# EAGLE library part MBI5168 (library Elecrow_IC)
8-bit Constant Current LED Sink Driver http://www.digchip.com/data/283/283-00011-0-MBI5168.pdf
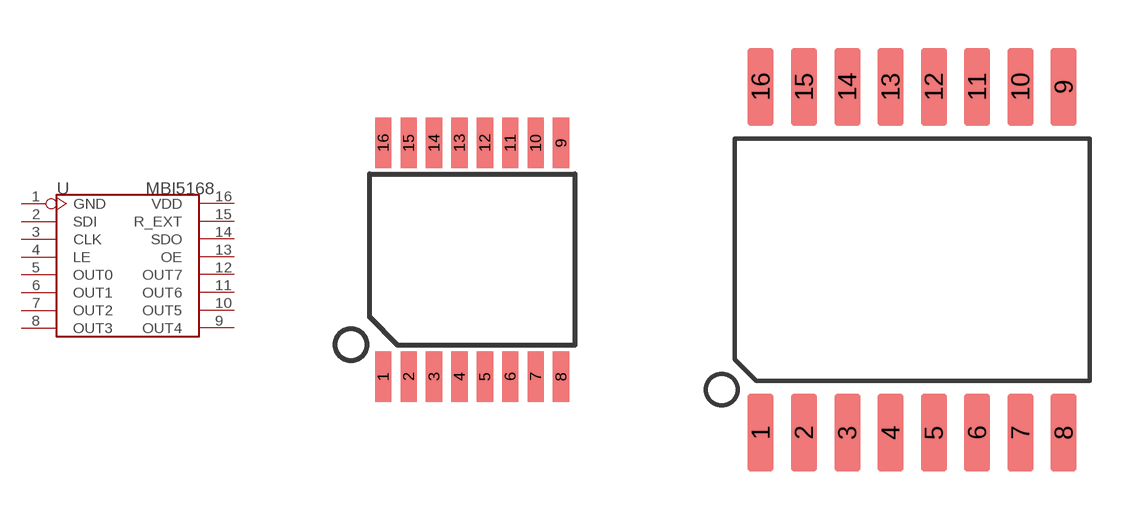
[diagram p19: symbol with the pads of SSOP16; footprints SSOP16, SO16-W]

Designator prefix U

## MBI5168CP/GP  [SSOP16]
1  GND
2  SDI
3  CLK
4  LE
5  OUT0
6  OUT1
7  OUT2
8  OUT3
9  OUT4
10  OUT5
11  OUT6
12  OUT7
13  OE
14  SDO
15  R_EXT
16  VDD

## MBI5168CDW/GDW  [SO16-W]
Pads as for SSOP16

## MBI5168CD/GD  [SO16]
Pads as for SSOP16

## Footprint SSOP16 (pad centres in mm)
Small Shrink Outline Package
smd 0.406 x 1.27: 1 -2.223,-2.925; 2 -1.587,-2.925; 3 -0.953,-2.925; 4 -0.318,-2.925; 5 0.318,-2.925; 6 0.953,-2.925; 7 1.587,-2.925; 8 2.223,-2.925; 9 2.223,2.925; 10 1.587,2.925; 11 0.953,2.925; 12 0.318,2.925; 13 -0.318,2.925; 14 -0.953,2.925; 15 -1.587,2.925; 16 -2.223,2.925

## Footprint SO16-W (pad centres in mm)
SMALL OUTLINE J LEADS body 7.63 mm
smd 0.762 x 2.286: 1 -4.445,-5.08; 2 -3.175,-5.08; 3 -1.905,-5.08; 4 -0.635,-5.08; 5 0.635,-5.08; 6 1.905,-5.08; 7 3.175,-5.08; 8 4.445,-5.08; 9 4.445,5.08; 10 3.175,5.08; 11 1.905,5.08; 12 0.635,5.08; 13 -0.635,5.08; 14 -1.905,5.08; 15 -3.175,5.08; 16 -4.445,5.08

## Footprint SO16 (pad centres in mm)
Small Outline package 150 mil
smd 0.66 x 2.032: 1 -4.445,-3.073; 2 -3.175,-3.073; 3 -1.905,-3.073; 4 -0.635,-3.073; 5 0.635,-3.073; 6 1.905,-3.073; 7 3.175,-3.073; 8 4.445,-3.073; 9 4.445,3.073; 10 3.175,3.073; 11 1.905,3.073; 12 0.635,3.073; 13 -0.635,3.073; 14 -1.905,3.073; 15 -3.175,3.073; 16 -4.445,3.073